# Altium footprint library IoT-A28LI V1.00.PcbLib: 55 footprints (part 1 of 4)
Each footprint in its own frame and in the unit in brackets; x right, y up, seen from the top. Pads: shape width x height; smd on the part's side, far side on the other; paste and mask are expansions set on the pad; w line width, h text height; cw(c..) or ccw(c..) is an arc to the next point about the centre after c.
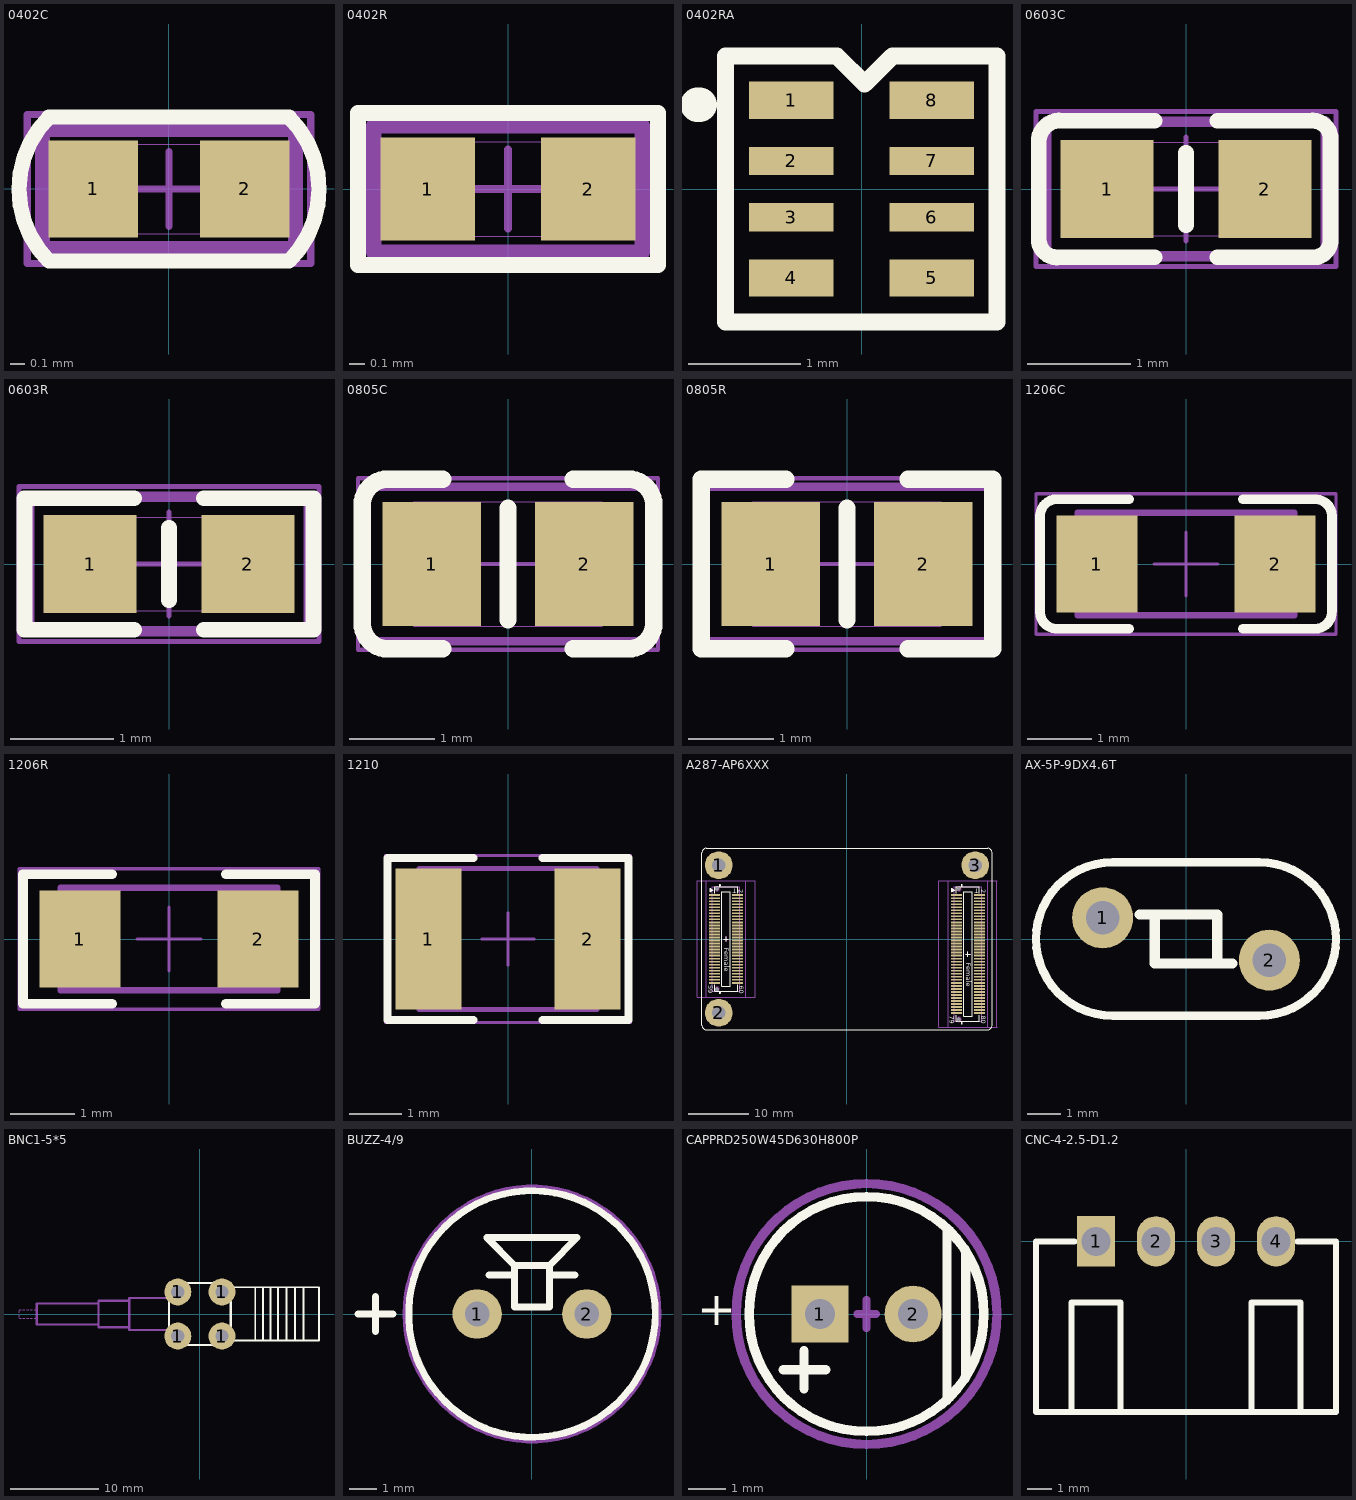
[diagram p0: the footprints below, top view; thin cyan lines are the x and y axes]

## 0402C [mm]
pads (2):
  rect 0.6x0.65 smd: 1(-0.508,0) 2(0.508,0)
Top Overlay:
  lines w0.102: -0.807,0.482 ccw(c-0.326,0) -0.806,-0.483 0.806,-0.483 ccw(c0.326,0) 0.807,0.482 0.806,0.483 -0.806,0.483 -0.807,0.482
Mechanical 15:
  lines w0.1: -0.85,-0.4 -0.85,0.4 0.85,0.4 0.85,-0.4 -0.85,-0.4
  text "1" at -0.082,-0.225 h0.38
Mechanical 16:
  lines w0.001: -0.55,-0.3 -0.55,0.3 0.55,0.3 0.55,-0.3 -0.55,-0.3
  lines w0.05: -0.25,0 0.25,0 ; 0,-0.25 0,0.25 ; -0.95,-0.5 -0.95,0.5 0.95,0.5 0.95,-0.5 -0.95,-0.5
3D body: height 0.5, standoff 0, extent -0.508,-0.229 0.492,0.271

## 0402R [mm]
pads (2):
  rect 0.6x0.65 smd: 1(-0.508,0) 2(0.508,0)
Top Overlay:
  lines w0.102: -0.95,-0.483 0.95,-0.483 0.95,0.483 -0.95,0.483 -0.95,-0.483
Mechanical 15:
  lines w0.1: -0.85,-0.4 -0.85,0.4 0.85,0.4 0.85,-0.4 -0.85,-0.4
  text "1" at -0.082,-0.225 h0.38
Mechanical 16:
  lines w0.001: -0.55,-0.3 -0.55,0.3 0.55,0.3 0.55,-0.3 -0.55,-0.3
  lines w0.05: -0.25,0 0.25,0 ; 0,-0.25 0,0.25 ; -0.95,-0.5 -0.95,0.5 0.95,0.5 0.95,-0.5 -0.95,-0.5
3D body: height 0.35, standoff 0, extent -0.475,-0.254 0.525,0.246

## 0402RA [mm]
pads (8):
  rect 0.75x0.33 smd: 1(-0.625,0.79) 4(-0.625,-0.79) 5(0.625,-0.79) 8(0.625,0.79)
  rect 0.75x0.25 smd: 2(-0.625,0.25) 3(-0.625,-0.25) 6(0.625,-0.25) 7(0.625,0.25)
Top Overlay:
  lines w0.152: -1.209,-1.18 1.204,-1.18 1.204,1.182 0.273,1.182 0.027,0.936 -0.219,1.182 -1.209,1.182 -1.209,-1.18
  lines w0.305: -1.463,0.75 -1.438,0.75
3D body: height 0.4, standoff 0, extent 0.375,-0.9 0.525,-0.6
3D body: height 0.4, standoff 0, extent 0.375,0.65 0.525,0.95
3D body: height 0.4, standoff 0, extent 0.375,-0.4 0.525,-0.1
3D body: height 0.4, standoff 0, extent 0.375,0.1 0.525,0.4
3D body: height 0.38, standoff 0, extent -0.5,-1 0.5,1
3D body: height 0.4, standoff 0.37, extent -0.4,-1 0.4,1
3D body: height 0.4, standoff 0, extent -0.525,0.1 -0.375,0.4
3D body: height 0.4, standoff 0, extent -0.525,-0.4 -0.375,-0.1
3D body: height 0.4, standoff 0, extent -0.525,0.65 -0.375,0.95
3D body: height 0.4, standoff 0, extent -0.525,-0.9 -0.375,-0.6

## 0603C [mm]
pads (2):
  rect 0.9x0.95 smd: 1(-0.762,0) 2(0.762,0)
Top Overlay:
  lines w0.152: -0.305,-0.66 -1.219,-0.66 cw(c-1.245,-0.483) -1.422,-0.508 -1.422,0.483 cw(c-1.219,0.457) -1.194,0.66 -0.305,0.66 ; 0,-0.35 0,0.35 ; 0.305,-0.66 1.219,-0.66 ccw(c1.232,-0.495) 1.397,-0.508 1.397,0.508 ccw(c1.219,0.483) 1.194,0.66 0.305,0.66
Mechanical 15:
  lines w0.1: -1.35,-0.65 -1.35,0.65 1.35,0.65 1.35,-0.65 -1.35,-0.65
  text "1" at -0.126,-0.345 h0.58
Mechanical 16:
  lines w0.001: -0.85,-0.45 -0.85,0.45 0.85,0.45 0.85,-0.45 -0.85,-0.45
  lines w0.05: -0.5,0 0.5,0 ; 0,-0.5 0,0.5 ; -1.45,-0.75 -1.45,0.75 1.45,0.75 1.45,-0.75 -1.45,-0.75
3D body: height 0.6, standoff 0, extent -0.8,-0.4 0.8,0.4

## 0603R [mm]
pads (2):
  rect 0.9x0.95 smd: 1(-0.762,0) 2(0.762,0)
Top Overlay:
  lines w0.152: -0.337,-0.635 -1.397,-0.635 -1.397,0.635 -0.337,0.635 ; 0,-0.35 0,0.35 ; 0.337,-0.635 1.397,-0.635 1.397,0.635 0.337,0.635
Mechanical 15:
  lines w0.1: -1.35,-0.65 1.35,-0.65 1.35,0.65 -1.35,0.65 -1.35,-0.65
  text "1" at -0.126,-0.345 h0.58
Mechanical 16:
  lines w0.001: -0.85,-0.45 0.85,-0.45 0.85,0.45 -0.85,0.45 -0.85,-0.45
  lines w0.05: -0.5,0 0.5,0 ; 0,-0.5 0,0.5 ; -1.45,-0.75 1.45,-0.75 1.45,0.75 -1.45,0.75 -1.45,-0.75
3D body: height 0.3, standoff 0, extent -0.8,-0.4 0.8,0.4

## 0805C [mm]
pads (2):
  rect 1.15x1.45 smd: 1(-0.889,0) 2(0.889,0)
Top Overlay:
  lines w0.2: 0,-0.65 0,0.65
  lines w0.203: -0.762,-0.991 -1.397,-0.991 cw(c-1.397,-0.686) -1.702,-0.686 -1.702,0.686 cw(c-1.397,0.686) -1.397,0.991 -0.762,0.991 ; 0.762,-0.991 1.397,-0.991 ccw(c1.397,-0.686) 1.702,-0.686 1.702,0.686 ccw(c1.397,0.686) 1.397,0.991 0.762,0.991
Mechanical 15:
  lines w0.1: -1.65,-0.9 -1.65,0.9 1.65,0.9 1.65,-0.9 -1.65,-0.9
  text "1" at -0.164,-0.45 h0.75
Mechanical 16:
  lines w0.001: -1.1,-0.725 -1.1,0.725 1.1,0.725 1.1,-0.725 -1.1,-0.725
  lines w0.05: -0.5,0 0.5,0 ; 0,-0.5 0,0.5 ; -1.75,-1 -1.75,1 1.75,1 1.75,-1 -1.75,-1
3D body: height 0.78, standoff 0, extent -1,-0.625 1,0.625

## 0805R [mm]
pads (2):
  rect 1.15x1.45 smd: 1(-0.889,0) 2(0.889,0)
Top Overlay:
  lines w0.2: 0,-0.65 0,0.65
  lines w0.203: -0.711,-0.991 -1.702,-0.991 -1.702,0.991 -0.711,0.991 ; 0.711,-0.991 1.702,-0.991 1.702,0.991 0.711,0.991
Mechanical 15:
  lines w0.1: -1.65,-0.9 -1.65,0.9 1.65,0.9 1.65,-0.9 -1.65,-0.9
  text "1" at -0.254,-0.508 h0.75
Mechanical 16:
  lines w0.001: -1.1,-0.725 -1.1,0.725 1.1,0.725 1.1,-0.725 -1.1,-0.725
  lines w0.05: -0.5,0 0.5,0 ; 0,-0.5 0,0.5 ; -1.75,-1 -1.75,1 1.75,1 1.75,-1 -1.75,-1
3D body: height 0.78, standoff 0, extent -1,-0.625 1,0.625

## 1206C [mil]
pads (2):
  rect 50x60 smd: 1(-55,0) 2(55,0)
Top Overlay:
  lines w6: -90,29 cw(c-79.5,29.5) -80,40 -35,40 ; -90,30 -90,-30 ccw(c-79.5,-29.5) -79,-40 ; -80,-40 -35,-40 ; 35,-40 79,-40 ; 35,40 80,40 ; 79,40 cw(c79.5,29.5) 90,30 90,-29 cw(c79.5,-29.5) 80,-40
Mechanical 15:
  lines w3.94: -66.93,-31.5 66.93,-31.5 66.93,31.5 -66.93,31.5 -66.93,-31.5
  text "1" at -6.47,-17.71 h29.53
Mechanical 16:
  lines w0.04: -66.93,-31.5 66.93,-31.5 66.93,31.5 -66.93,31.5 -66.93,-31.5
  lines w1.97: -19.68,0 19.68,0 ; 0,-19.68 0,19.68 ; -92.52,-43.31 92.52,-43.31 92.52,43.31 -92.52,43.31 -92.52,-43.31
3D body: height 39.37, standoff 0, extent -62,-32 63.98,30.99

## 1206R [mil]
pads (2):
  rect 50x60 smd: 1(-55,0) 2(55,0)
Top Overlay:
  lines w6: -35,-40 -90,-40 -90,40 -35,40 ; 35,-40 90,-40 90,40 35,40
Mechanical 15:
  lines w3.94: -66.93,-31.5 -66.93,31.5 66.93,31.5 66.93,-31.5 -66.93,-31.5
  text "1" at -6.47,-17.71 h29.53
Mechanical 16:
  lines w0.04: -66.93,-31.5 -66.93,31.5 66.93,31.5 66.93,-31.5 -66.93,-31.5
  lines w1.97: -19.68,0 19.68,0 ; 0,-19.68 0,19.68 ; -92.52,-43.31 -92.52,43.31 92.52,43.31 92.52,-43.31 -92.52,-43.31
3D body: height 23.62, standoff 0, extent -62.93,-31.5 63.06,31.5

## 1210 [mm]
pads (2):
  rect 1.27x2.7 smd: 1(-1.524,0) 2(1.524,0)
Top Overlay:
  lines w0.152: -0.66,-1.549 -2.311,-1.549 -2.311,1.549 -0.66,1.549 ; 0.66,-1.549 2.311,-1.549 2.311,1.549 0.66,1.549
Mechanical 15:
  lines w0.1: -1.7,-1.35 -1.7,1.35 1.7,1.35 1.7,-1.35 -1.7,-1.35
  text "1" at -0.164,-0.45 h0.75
Mechanical 16:
  lines w0.001: -1.7,-1.35 -1.7,1.35 1.7,1.35 1.7,-1.35 -1.7,-1.35
  lines w0.05: -0.5,0 0.5,0 ; 0,-0.5 0,0.5 ; -2.35,-1.6 -2.35,1.6 2.35,1.6 2.35,-1.6 -2.35,-1.6

## A287-AP6XXX [mm] "Rev.D"
height 2.3
pads (147):
  round 0.6 hole 0.6 unplated mask+0.254: 0(-21.5,-8.3) 0(-21.5,8.3) 0(18.5,-13.3) 0(18.5,8.3)
  round 4.6 hole 2.2: 1(-21.2,12.2) 2(-21.2,-12.2) 3(21.2,12.2)
  rect 1.8x0.3 smd mask+0.051: A1(18.1,7.25) A2(21.9,7.25) A3(18.1,6.75) A4(21.9,6.75) A5(18.1,6.25) A6(21.9,6.25) A7(18.1,5.75) A8(21.9,5.75) A9(18.1,5.25) A10(21.9,5.25) A11(18.1,4.75) A12(21.9,4.75) A13(18.1,4.25) A14(21.9,4.25) A15(18.1,3.75) A16(21.9,3.75) A17(18.1,3.25) A18(21.9,3.25) A19(18.1,2.75) A20(21.9,2.75) A21(18.1,2.25) A22(21.9,2.25) A23(18.1,1.75) A24(21.9,1.75) A25(18.1,1.25) A26(21.9,1.25) A27(18.1,0.75) A28(21.9,0.75) A29(18.1,0.25) A30(21.9,0.25) A31(18.1,-0.25) A32(21.9,-0.25) A33(18.1,-0.75) A34(21.9,-0.75) A35(18.1,-1.25) A36(21.9,-1.25) A37(18.1,-1.75) A38(21.9,-1.75) A39(18.1,-2.25) A40(21.9,-2.25) A41(18.1,-2.75) A42(21.9,-2.75) A43(18.1,-3.25) A44(21.9,-3.25) A45(18.1,-3.75) A46(21.9,-3.75) A47(18.1,-4.25) A48(21.9,-4.25) A49(18.1,-4.75) A50(21.9,-4.75) A51(18.1,-5.25) A52(21.9,-5.25) A53(18.1,-5.75) A54(21.9,-5.75) A55(18.1,-6.25) A56(21.9,-6.25) A57(18.1,-6.75) A58(21.9,-6.75) A59(18.1,-7.25) A60(21.9,-7.25) A61(18.1,-7.75) A62(21.9,-7.75) A63(18.1,-8.25) A64(21.9,-8.25) A65(18.1,-8.75) A66(21.9,-8.75) A67(18.1,-9.25) A68(21.9,-9.25) A69(18.1,-9.75) A70(21.9,-9.75) A71(18.1,-10.25) A72(21.9,-10.25) A73(18.1,-10.75) A74(21.9,-10.75) A75(18.1,-11.25) A76(21.9,-11.25) A77(18.1,-11.75) A78(21.9,-11.75) A79(18.1,-12.25) A80(21.9,-12.25) B1(-21.9,7.25) B2(-18.1,7.25) B3(-21.9,6.75) B4(-18.1,6.75) B5(-21.9,6.25) B6(-18.1,6.25) B7(-21.9,5.75) B8(-18.1,5.75) B9(-21.9,5.25) B10(-18.1,5.25) B11(-21.9,4.75) B12(-18.1,4.75) B13(-21.9,4.25) B14(-18.1,4.25) B15(-21.9,3.75) B16(-18.1,3.75) B17(-21.9,3.25) B18(-18.1,3.25) B19(-21.9,2.75) B20(-18.1,2.75) B21(-21.9,2.25) B22(-18.1,2.25) B23(-21.9,1.75) B24(-18.1,1.75) B25(-21.9,1.25) B26(-18.1,1.25) B27(-21.9,0.75) B28(-18.1,0.75) B29(-21.9,0.25) B30(-18.1,0.25) B31(-21.9,-0.25) B32(-18.1,-0.25) B33(-21.9,-0.75) B34(-18.1,-0.75) B35(-21.9,-1.25) B36(-18.1,-1.25) B37(-21.9,-1.75) B38(-18.1,-1.75) B39(-21.9,-2.25) B40(-18.1,-2.25) B41(-21.9,-2.75) B42(-18.1,-2.75) B43(-21.9,-3.25) B44(-18.1,-3.25) B45(-21.9,-3.75) B46(-18.1,-3.75) B47(-21.9,-4.25) B48(-18.1,-4.25) B49(-21.9,-4.75) B50(-18.1,-4.75) B51(-21.9,-5.25) B52(-18.1,-5.25) B53(-21.9,-5.75) B54(-18.1,-5.75) B55(-21.9,-6.25) B56(-18.1,-6.25) B57(-21.9,-6.75) B58(-18.1,-6.75) B59(-21.9,-7.25) B60(-18.1,-7.25)
Top Overlay:
  circle w0.203: c18.984,8.89 r0.102
  circle w0.203: c18.984,-13.89 r0.102
  circle w0.203: c-21.016,8.89 r0.102
  circle w0.203: c-21.016,-8.89 r0.102
  region: 17.841,8.066 17.358,7.783 17.358,8.35
  region: -22.159,8.066 -22.642,7.783 -22.642,8.35
  lines w0.127: -21.9,-7.584 -21.9,-8.6 -18.1,-8.6 -18.1,-7.584 ; -21.9,7.584 -21.9,8.6 -18.1,8.6 -18.1,7.584 ; 18.1,-12.584 18.1,-13.6 21.9,-13.6 21.9,-12.584 ; 18.1,7.584 18.1,8.6 21.9,8.6 21.9,7.584 ; -22.642,7.783 -22.159,8.066 -22.642,8.35 -22.642,7.783 ; -20.686,-7.8 -20.686,7.8 -19.314,7.8 -19.314,-7.8 -20.686,-7.8 ; 17.358,7.783 17.841,8.066 17.358,8.35 17.358,7.783 ; 19.314,-12.8 19.314,7.8 20.686,7.8 20.686,-12.8 19.314,-12.8
  lines w0.152: -24,-14.238 ccw(c-23.238,-14.238) -23.238,-15 23.238,-15 ccw(c23.238,-14.238) 24,-14.238 24,14.238 ccw(c23.238,14.238) 23.238,15 -23.238,15 ccw(c-23.238,14.238) -24,14.238 -24,-14.238
  lines w0.203: -20.4,0 -20,0 ; -20,-0.4 -20,0 ; -20,0.4 -20,0 ; -19.6,0 -20,0 ; 19.6,-2.5 20,-2.5 ; 20,-2.9 20,-2.5 ; 20,-2.1 20,-2.5 ; 20.4,-2.5 20,-2.5
  text "T" at 21.116,8.331 h0.71
  text "80" at 22.159,-12.711 h0.81
  text "79" at 17.028,-12.685 h0.81
  text "2" at 22.159,8.244 h0.81
  text "Female" at 19.695,-3.94 h0.76
  text "Female" at -20.305,-1.44 h0.76
  text "2" at -17.866,8.244 h0.81
  text "60" at -17.841,-7.711 h0.81
  text "59" at -22.972,-7.685 h0.81
  text "T" at -18.884,8.331 h0.71
Keep-Out Layer:
  circle w0.127: c18.5,8.3 r0.38
  circle w0.127: c18.5,-13.3 r0.38
  circle w0.127: c-21.5,-8.3 r0.38
  circle w0.127: c-21.5,8.3 r0.38
Mechanical 13:
  lines w0.152: -22.3,-8.6 -22.3,8.6 -17.7,8.6 -17.7,-8.6 -22.3,-8.6 ; 17.7,-13.6 22.3,-13.6 22.3,8.6 17.7,8.6 17.7,-13.6
Mechanical 15:
  lines w0.127: -20.432,0 -20,0 ; -20,-0.432 -20,0 ; -20,0.432 -20,0 ; -19.568,0 -20,0 ; 19.568,-2.5 20,-2.5 ; 20,-2.932 20,-2.5 ; 20,-2.068 20,-2.5 ; 20.432,-2.5 20,-2.5
  lines w0.152: -24.8,-9.6 -15.2,-9.6 ; -24.799,-9.6 -24.799,9.6 -15.199,9.6 -15.199,-9.6 ; -23.3,-9.6 -23.3,9.6 ; -16.7,-9.6 -16.7,9.6 ; 16.7,-14.6 16.7,9.6 ; 23.3,-14.6 23.3,9.6 ; 15.2,-14.6 15.2,9.6 24.8,9.6 24.8,-14.6 15.2,-14.6
  text "0.6mm机械孔位公差要求为（-0.05,+0.05）mm" at -14.351,-6.096 h1.52
  text "0.6mm机械孔径公差要求为（0,+0.05）mm" at -13.081,-4.064 h1.52
  text "0.6mm机械孔径公差要求为（0,+0.05）mm" at 20.33,-10.806 h1.02
  text "元件禁布区" at 24.547,-5.853 h1.52
  text "元件禁布区" at 16.469,-5.853 h1.52
  text "元件禁布区" at -15.453,-3.353 h1.52
  text "元件禁布区" at -23.531,-3.353 h1.52
  text "0.6mm机械孔径公差要求为（0,+0.05）mm" at -19.695,-8.611 h1.02
  text "A287-AP6XXX Rev.D" at -10.95,-0.825 h1.52

## AX-5P-9DX4.6T [mm]
pads (2):
  round 1.829 hole 1: 1(-2.5,0.635) 2(2.5,-0.635)
Top Overlay:
  lines w0.254: -2.2,-2.3 cw(c-2.2,0) -2.2,2.3 2.2,2.3 cw(c2.2,0) 2.2,-2.3 -2.2,-2.3
  lines w0.305: -1.397,0.737 0.94,0.737 0.94,-0.737 ; -0.94,0.737 -0.94,-0.737 1.397,-0.737

## BNC1-5*5 [mm]
pads (4):
  round 3.048 hole 1.5: 1(-2.5,-2.5) 1(-2.5,2.5) 1(2.5,-2.5) 1(2.5,2.5)
Top Overlay:
  lines w0.203: 3.5,-2.997 13.5,-2.997 13.5,3.023 3.5,3.023 ; 6.274,-3 6.274,3 ; 7.163,-2.997 7.163,3.023 ; 8.001,-2.997 8.001,3.023 ; 8.839,-2.997 8.839,3.023 ; 9.804,-2.997 9.804,3.023 ; 10.77,-2.997 10.77,3.023 ; 11.735,-2.997 11.735,3.023
  lines w0.254: -3.5,-3.5 3.5,-3.5 3.5,3.5 -3.5,3.5 -3.5,-3.5
Mechanical 15:
  lines w0.102: -20.5,-0.492 -20.269,-0.492 ; -20.498,-0.356 -20.498,-0.127 ; -20.498,0.127 -20.498,0.356 ; -20.498,0.508 -20.269,0.508 ; -20.068,-0.492 -19.84,-0.492 ; -20.066,0.508 -19.837,0.508 ; -19.636,-0.492 -19.408,-0.492 ; -19.634,0.508 -19.406,0.508 ; -19.205,-0.492 -18.976,-0.492 ; -19.202,0.508 -18.974,0.508 ; -18.747,-0.492 -18.519,-0.492 ; -18.745,0.508 -18.517,0.508
  lines w0.254: -11.5,-1.2 -18.5,-1.2 -18.5,0 -18.5,1.2 -11.5,1.2 ; -8,-1.5 -11.5,-1.5 -11.5,0 -11.5,1.5 -8,1.5 ; -3.503,-1.8 -8,-1.8 -8,0 -8,1.8 -3.503,1.8
  text "该层框线位置限高5mm" at -17.907,-2.54 h0.91
  text "考虑线的硬度和长度" at -17.907,-0.254 h0.91

## BUZZ-4/9 [mm]
pads (2):
  round 1.8 hole 0.9: 1(-2,0) 2(2,0)
Top Overlay:
  circle w0.254: c0,0 r4.5
  lines w0.254: -6.35,0 -5.08,0 ; -5.715,-0.635 -5.715,0.635 ; -1.575,1.424 -0.635,1.424 ; 0.635,1.424 1.575,1.424 ; -0.635,1.778 -0.635,0.254 0.635,0.254 0.635,1.778 ; -0.635,1.778 -1.651,2.794 1.651,2.794 0.635,1.778 ; -0.635,1.778 0.635,1.778
Mechanical 15:
  circle w0.254: c0,0 r4.6

## CAPPRD250W45D630H800P [mm]
pads (2):
  rect 1.524x1.524 hole 0.8: 1(-1.25,0)
  round 1.524 hole 0.8: 2(1.25,0)
Top Overlay:
  circle w0.254: c0,0 r3.15
  lines w0.254: -2.235,-1.499 -1.092,-1.499 ; -1.676,-2.007 -1.676,-0.991 ; 2.159,-2.311 2.159,2.261 ; 2.667,-1.676 2.667,1.626
  text "+" at -4.547,-0.305 h0.91
Mechanical 15:
  circle w0.254: c0,0 r3.5
  lines w0.203: -0.254,0 0,0 ; 0,-0.381 0,0 ; 0,0.381 0,0 ; 0.254,0 0,0
3D body: height 11.5, standoff -18.5, extent -3.15,-3.15 3.15,3.15

## CNC-4-2.5-D1.2 [mm]
pads (4):
  rect 1.6x2.1 hole 1.2: 1(-3.75,0)
  oval 1.6x2.1 hole 1.2: 2(-1.25,0) 3(1.25,0) 4(3.75,0)
Top Overlay:
  lines w0.254: -4.766,-7.1 -4.766,-2.544 -2.734,-2.544 -2.734,-7.1 ; -4.639,0 -6.25,0 -6.25,-7.1 6.25,-7.1 6.25,0 4.639,0 ; 2.734,-7.1 2.734,-2.544 4.766,-2.544 4.766,-7.1